# Altium footprint library Composants_Projet_PCB_Full.PcbLib: 52 footprints (part 4 of 4)
Each footprint in its own frame and in the unit in brackets; x right, y up, seen from the top. Pads: shape width x height; smd on the part's side, far side on the other; paste and mask are expansions set on the pad; w line width, h text height; cw(c..) or ccw(c..) is an arc to the next point about the centre after c.
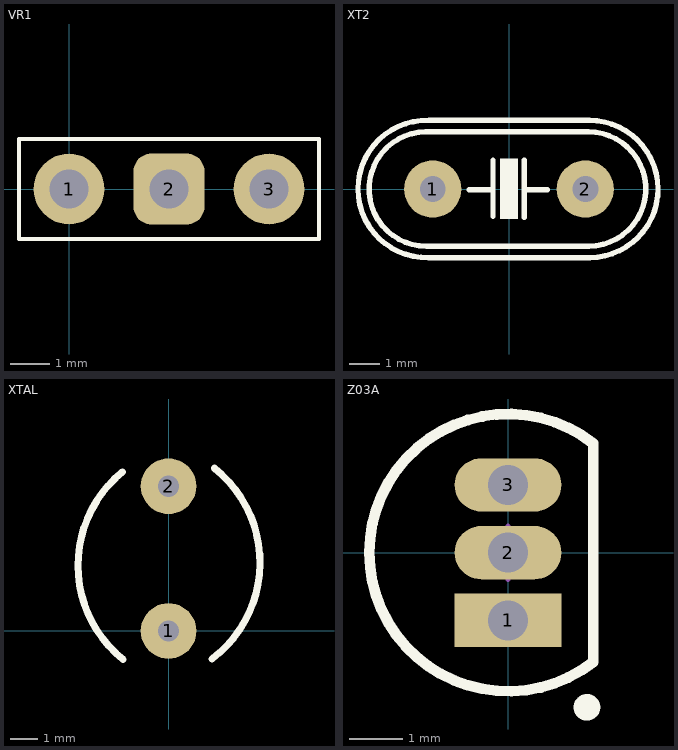
[diagram p3: the footprints below, top view; thin cyan lines are the x and y axes]

## VR1 [mm]
pads (3):
  round 1.8 hole 1: 1(0,0) 3(5.08,0)
  rrect50% 1.8x1.8 hole 1: 2(2.54,0)
Top Overlay:
  lines w0.1: -1.27,-1.27 6.35,-1.27 6.35,1.27 -1.27,1.27 -1.27,-1.27
3D body "POT bourns 3296.STEP": height 11.55, standoff -6.4, extent -2.225,-2.413 7.305,2.418

## XT2 [mil]
pads (2):
  round 75 hole 34: 1(-100,0) 2(100,0)
Top Overlay:
  region: 11.5,40 11.5,-39 -11.5,-39 -11.5,40
  lines w7: -109,75 ccw(c-108.5,0) -108.27,-75 ; -106.97,-75 103.03,-75 ; -105.97,75 104.03,75 ; -105.02,-90 105.91,-90 ccw(c105.31,0) 105.03,90 -104.97,90.01 ccw(c-108,0.06) -105.02,-89.89 ; -52,-1 -21,-1 ; -21,-36 -21,38 ; 20,-37 20,38 ; 20,-1 50,-1 ; 104,75 cw(c104.23,0) 104.73,-75
3D body "SW3dPS-HP49US.STEP": height 137.8, standoff -157.48, extent -233.43,-93.07 213.43,90

## XTAL [mm]
pads (2):
  round 2 hole 0.762: 1(0,0) 2(0,5.2)
Top Overlay:
  lines w0.254: -1.651,5.715 ccw(c1.075,2.355) -1.631,-1.022 ; 1.564,-0.998 ccw(c-1.042,2.456) 1.651,5.842
3D body "XTAL2.STEP": height 3.09, standoff -2.54, extent -1.524,-2.667 1.524,8.001

## Z03A [mm]
pads (3):
  rect 2x1 hole 0.75: 1(0,-1.27)
  oval 2x1 hole 0.75: 2(0,0) 3(0,1.27)
Top Overlay:
  circle w0.25: c1.48,-2.9 r0.125
  lines w0.2: 1.601,-2.049 cw(c0,0) 1.601,2.049 1.6,-2.049
Mechanical 13:
  lines w0.1: 1.601,-2.049 cw(c0,0) 1.601,2.049 1.6,-2.049
Mechanical 15:
  lines w0.1: -0.5,0 0.5,0 ; 0,-0.5 0,0.5
3D body: height 5.2, standoff 0, extent -2.599,-2.611 1.6,2.611